# EAGLE library part XA1110_GPS (library maka-niu)
AirPrime XA1110 GPS
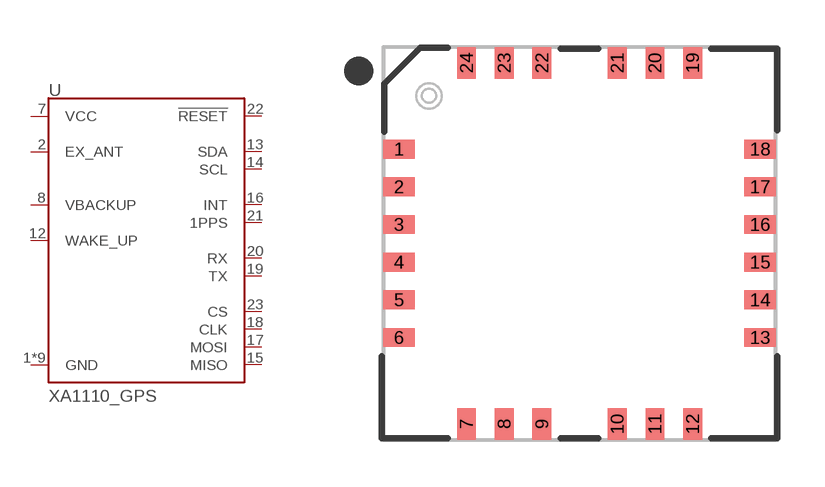
[diagram p2: symbol with the pads of XA1110_GPS; footprint XA1110_GPS]

Designator prefix U

## XA1110_GPS (PROD_ID: GPS-13693; VALUE: XA1110 GPS)  [XA1110_GPS]
1  GND  pwr
2  EX_ANT  in
3  GND  pwr
4  GND  pwr
5  GND  pwr
6  GND  pwr
7  VCC  pwr
8  VBACKUP  in
9  GND  pwr
10  GND  pwr
11  GND  pwr
12  WAKE_UP  in
13  SDA
14  SCL  in
15  MISO  out
16  INT  out
17  MOSI  in
18  CLK  in
19  TX  out
20  RX  in
21  1PPS  out
22  !RESET  in
23  CS  in
24  GND  pwr

## Footprint XA1110_GPS (pad centres in mm)
AirPrime XA1110 GPS
smd 1 x 0.6: 1 -5.75,3; 2 -5.75,1.8; 3 -5.75,0.6; 4 -5.75,-0.6; 5 -5.75,-1.8; 6 -5.75,-3; 13 5.75,-3; 14 5.75,-1.8; 15 5.75,-0.6; 16 5.75,0.6; 17 5.75,1.8; 18 5.75,3
smd 0.6 x 1: 7 -3.6,-5.75; 8 -2.4,-5.75; 9 -1.2,-5.75; 10 1.2,-5.75; 11 2.4,-5.75; 12 3.6,-5.75; 19 3.6,5.75; 20 2.4,5.75; 21 1.2,5.75; 22 -1.2,5.75; 23 -2.4,5.75; 24 -3.6,5.75